# Altium schematic symbol library SPST-NC Solid State Relay.SchLib: 1 symbol
Pins are listed as number, name and electrical type; pins without a type are passive.

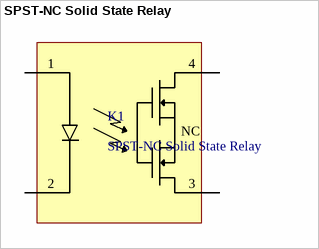
[diagram p0: symbol SPST-NC Solid State Relay]

## SPST-NC Solid State Relay
designator K1
footprint SPST-NC Solid State Relay - IXYS (Digikey: CLA268CT-ND / MFG: CPC1117NTR)
pins: 1 Control +, 2 Control -, 3 Load, 4 Load
text: NC